# EAGLE library part JST_S4B-ZR-SM4A-TF (library shepherd)
CONN HEADER SMD R/A 4POS 1.5MM
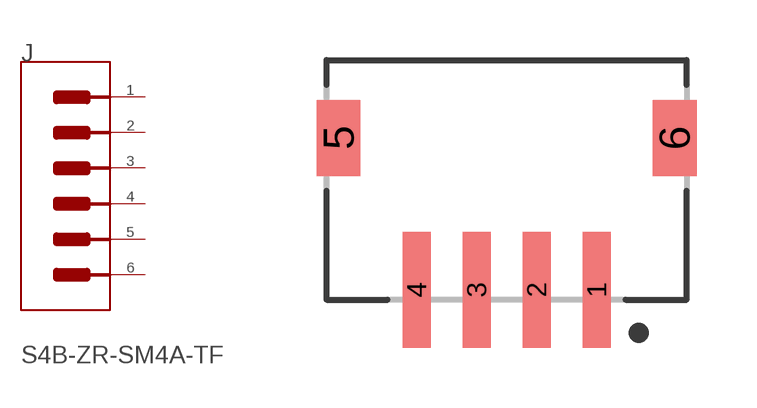
[diagram p30: symbol with the pads of JST_S4B-ZR-SM4A-TF_0; footprint JST_S4B-ZR-SM4A-TF_0]

Designator prefix J

## JST_S4B-ZR-SM4A-TFJST_S4B-ZR-SM4A-TF_0_0 (AUTOMOTIVE: No; CENTROID_NOT_SPECIFIED: No; CONN_GENDER: Male; CONN_ORIENTATION: Right Angle; CONTACT_MATERIAL: Tin,Copper; CURRENT_RATING: 1A; DATASHEET: http://www.jst-mfg.com/product/pdf/eng/eZH.pdf; DEVICE_CLASS_L1: Connectors; DEVICE_CLASS_L2: Headers and Wire Housings; DEVICE_CLASS_L3: unset; DIGIKEY_DESCRIPTION: CONN HEADER SMD R/A 4POS 1.5MM; DIGIKEY_PART_NUMBER: 455-1695-1-ND; FOOTPRINT_VARIANT_NAME_0: Recommended_Land_Pattern; HEIGHT: 3.7mm; LEAD_FREE: Yes; MF: JST; MFG_PACKAGE_IDENT: S4B-ZR-SM4A-TF; MFG_PACKAGE_IDENT_DATE: 0; MFG_PACKAGE_IDENT_REV: 0; MOUSER_PART_NUMBER: 538-502585-0470; MPN: S4B-ZR-SM4A-TF; NUMBER_OF_CONTACTS: 4; NUMBER_OF_ROWS: 1; PACKAGE: HDR4; PITCH: 1.5mm; PREFIX: J; ROHS: Yes; TEMPERATURE_RANGE_HIGH: +85°C; TEMPERATURE_RANGE_LOW: -25°C; VERIFICATION_VERSION: 0.0.0.2; VOLTAGE_RATING: 50V)  [JST_S4B-ZR-SM4A-TF_0]
1  1  pas
2  2  pas
3  3  pas
4  4  pas
5  MNT_1  pas
6  MNT_2  pas

## Footprint JST_S4B-ZR-SM4A-TF_0 (pad centres in mm)
CONN HEADER SMD R/A 4POS 1.5MM
smd 0.7 x 2.9: 1 2.25,-2.75; 2 0.75,-2.75; 3 -0.75,-2.75; 4 -2.25,-2.75
smd 1.1 x 1.9: 5 -4.2,1.05; 6 4.2,1.05